# Altium schematic symbol library 电源电路 5V-25V to 12V  3A.SchLib: 2 symbols
Pins are listed as number, name and electrical type; pins without a type are passive.

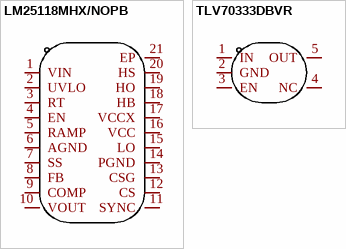
[diagram p0: symbols LM25118MHX/NOPB to TLV70333DBVR]

## LM25118MHX/NOPB
designator U??  (value not drawn)
Manufacturer: TI(德州仪器); Add into BOM: yes; Function: 升压型；降压型; Synchronous Rectification: 否; Number of Outputs: 1; Topology: 升压式；降压式; Input Voltage: 3V~42V; Switching Frequency: 500kHz; Duty Cycle (Max): 75%; Name: LM25118MHX/NOPB; Symbol: LM25118MHX/NOPB; Device: LM25118MHX/NOPB; LCSC Part Name: 降压型 升压型 3V~42V 500kHz; Supplier Part: C470962; Manufacturer Part: LM25118MHX/NOPB; Supplier Footprint: HTSSOP-20-EP; JLCPCB Part Class: Extended Part; Datasheet: https://atta.szlcsc.com/upload/public/pdf/source/20191219/C470962_B4E0B445A5DDC9BDA17A6FD2A579B975.pdf; Supplier: LCSC; Convert to PCB: yes; Operating Temperature: -40℃~+125℃@(TJ)
footprint HTSSOP-20_L6.5-W4.4-P0.65-LS6.4-BL-EP
3D model HTSSOP-20_L6.5-W4.4-H1.2-LS6.4-P0.65
pins: 1 VIN, 2 UVLO, 3 RT, 4 EN, 5 RAMP, 6 AGND, 7 SS, 8 FB, 9 COMP, 10 VOUT, 11 SYNC, 12 CS, 13 CSG, 14 PGND, 15 LO, 16 VCC, 17 VCCX, 18 HB, 19 HO, 20 HS, 21 EP

## TLV70333DBVR
designator U??  (value not drawn)
Manufacturer: TI(德州仪器); Add into BOM: yes; Output Type: 固定; Output Polarity: 正; Number of Outputs: 1; Maximum Input Voltage: 5.5V; Output Voltage: 3.3V; Dropout Voltage: 375mV@300mA; Quiescent Current (Ground Current): 55uA; Output Current: 300mA; Power Supply Rejection Ratio (PSRR): 68dB@(1kHz); Noise: 48uVrms; Name: TLV70333DBVR; Symbol: TLV70333DBVR; Device: TLV70333DBVR; LCSC Part Name: 正 Vin=5.5V Vout=3.3V 300mA 68dB@(1kHz); Supplier Part: C2871194; Manufacturer Part: TLV70333DBVR; Supplier Footprint: SOT-23; JLCPCB Part Class: Extended Part; Datasheet: https://atta.szlcsc.com/upload/public/pdf/source/20210918/50FD5D831AE9FE2A9E2303D8DCF0EFD5.pdf; Supplier: LCSC; Convert to PCB: yes; Feature: 过热保护,过流保护，使能; Operating Temperature: -55℃~+150℃@(Tj)
footprint SOT-23-5_L2.9-W1.6-P0.95-LS2.8-BR
3D model SOT-23-5_L2.9-W1.6-P0.95-LS2.8-BR
pins: 1 IN, 2 GND, 3 EN, 4 NC, 5 OUT